# EAGLE library part 74*7006 (library 74)
NOR/NAND/INVERTER
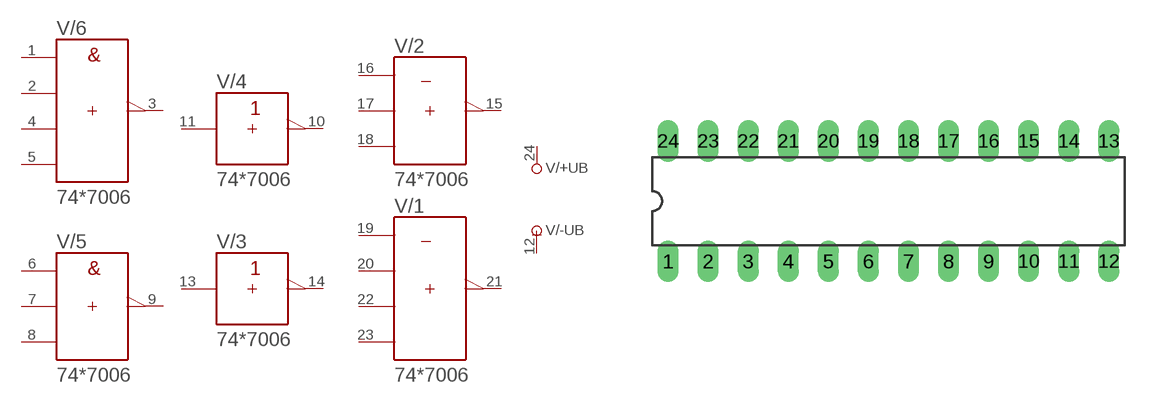
[diagram p153: symbol with the pads of DIL24-3; footprint DIL24-3]

Designator prefix V; gates /+UB=+UB /-UB=-UB /1=7006_6 /2=7006_5 /3=7006_4 /4=7006_3 /5=7006_2 /6=7006_1

## 747006N  [DIL24-3]
1  /6:A  in
2  /6:B  in
3  /6:Y  out
4  /6:C  in
5  /6:D  in
6  /5:A  in
7  /5:B  in
8  /5:C  in
9  /5:Y  out
10  /4:Y  out
11  /4:A  in
12  /-UB:-UB  pwr
13  /3:A  in
14  /3:Y  out
15  /2:Y  out
16  /2:A  in
17  /2:B  in
18  /2:C  in
19  /1:A  in
20  /1:B  in
21  /1:Y  out
22  /1:C  in
23  /1:D  in
24  /+UB:+UB  pwr

## Footprint DIL24-3 (pad centres in mm)
Dual In Line Package 0.3 inch
drill 0.813 long: 1 -13.97,-3.81; 2 -11.43,-3.81; 3 -8.89,-3.81; 4 -6.35,-3.81; 5 -3.81,-3.81; 6 -1.27,-3.81; 7 1.27,-3.81; 8 3.81,-3.81; 9 6.35,-3.81; 10 8.89,-3.81; 11 11.43,-3.81; 12 13.97,-3.81; 13 13.97,3.81; 14 11.43,3.81; 15 8.89,3.81; 16 6.35,3.81; 17 3.81,3.81; 18 1.27,3.81; 19 -1.27,3.81; 20 -3.81,3.81; 21 -6.35,3.81; 22 -8.89,3.81; 23 -11.43,3.81; 24 -13.97,3.81